# Altium footprint library 17-35 connector.PcbLib: 1 footprints
Each footprint in its own frame and in the unit in brackets; x right, y up, seen from the top. Pads: shape width x height; smd on the part's side, far side on the other; paste and mask are expansions set on the pad; w line width, h text height; cw(c..) or ccw(c..) is an arc to the next point about the centre after c.
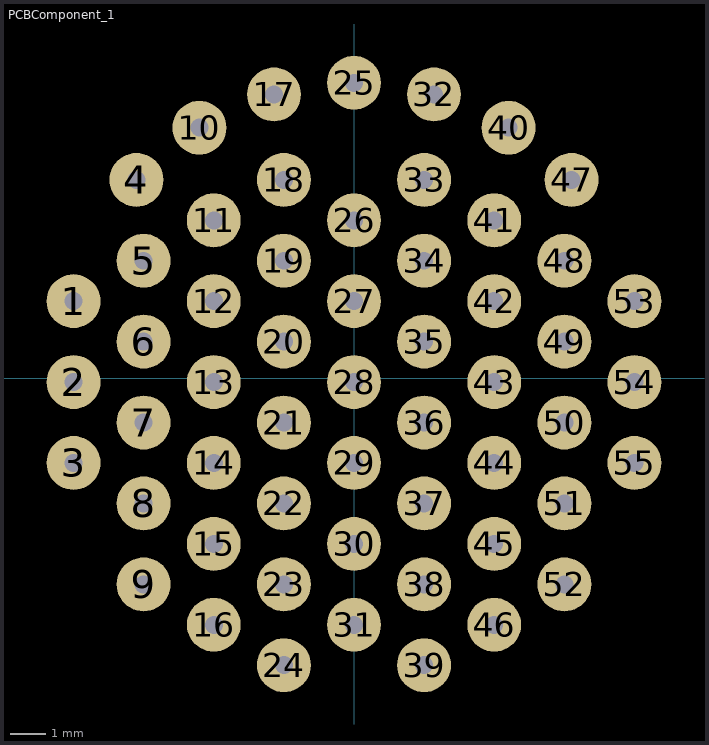
[diagram p0: the footprint, top view; thin cyan lines are the x and y axes]

## PCBComponent_1 [mil]
pads (55):
  round 60 hole 20: 1(-312,86) 2(-312,-4) 3(-312,-94) 4(-242,221) 5(-234,131) 6(-234,41) 7(-234,-49) 8(-234,-139) 9(-234,-229) 10(-172,279) 11(-156,176) 12(-156,86) 13(-156,-4) 14(-156,-94) 15(-156,-184) 16(-156,-274) 17(-89,316) 18(-78,221) 19(-78,131) 20(-78,41) 21(-78,-49) 22(-78,-139) 23(-78,-229) 24(-78,-319) 25(0,329) 26(0,176) 27(0,86) 28(0,-4) 29(0,-94) 30(0,-184) 31(0,-274) 32(89,316) 33(78,221) 34(78,131) 35(78,41) 36(78,-49) 37(78,-139) 38(78,-229) 39(78,-319) 40(172,279) 41(156,176) 42(156,86) 43(156,-4) 44(156,-94) 45(156,-184) 46(156,-274) 47(242,221) 48(234,131) 49(234,41) 50(234,-49) 51(234,-139) 52(234,-229) 53(312,86) 54(312,-4) 55(312,-94)